# Altium schematic symbol library SCH - MCU - SI LABS - SI LABS BGM13P22F512GE 31-PIN LGA 13X15.SchLib: 1 symbol
Pins are listed as number, name and electrical type; pins without a type are passive.

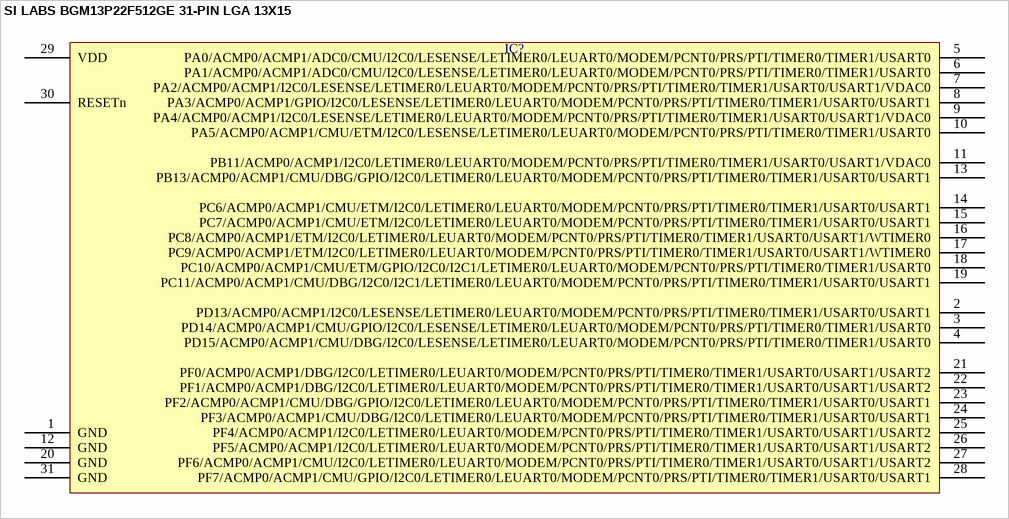
[diagram p0: symbol SI LABS BGM13P22F512GE 31-PIN LGA 13X15]

## SI LABS BGM13P22F512GE 31-PIN LGA 13X15
designator IC?  (value not drawn)
pins: 1 GND, 2 PD13/ACMP0/ACMP1/I2C0/LESENSE/LETIMER0/LEUART0/MODEM/PCNT0/PRS/PTI/TIMER0/TIMER1/USART0/USART1, 3 PD14/ACMP0/ACMP1/CMU/GPIO/I2C0/LESENSE/LETIMER0/LEUART0/MODEM/PCNT0/PRS/PTI/TIMER0/TIMER1/USART0, 4 PD15/ACMP0/ACMP1/CMU/DBG/I2C0/LESENSE/LETIMER0/LEUART0/MODEM/PCNT0/PRS/PTI/TIMER0/TIMER1/USART0, 5 PA0/ACMP0/ACMP1/ADC0/CMU/I2C0/LESENSE/LETIMER0/LEUART0/MODEM/PCNT0/PRS/PTI/TIMER0/TIMER1/USART0, 6 PA1/ACMP0/ACMP1/ADC0/CMU/I2C0/LESENSE/LETIMER0/LEUART0/MODEM/PCNT0/PRS/PTI/TIMER0/TIMER1/USART0, 7 PA2/ACMP0/ACMP1/I2C0/LESENSE/LETIMER0/LEUART0/MODEM/PCNT0/PRS/PTI/TIMER0/TIMER1/USART0/USART1/VDAC0, 8 PA3/ACMP0/ACMP1/GPIO/I2C0/LESENSE/LETIMER0/LEUART0/MODEM/PCNT0/PRS/PTI/TIMER0/TIMER1/USART0/USART1, 9 PA4/ACMP0/ACMP1/I2C0/LESENSE/LETIMER0/LEUART0/MODEM/PCNT0/PRS/PTI/TIMER0/TIMER1/USART0/USART1/VDAC0, 10 PA5/ACMP0/ACMP1/CMU/ETM/I2C0/LESENSE/LETIMER0/LEUART0/MODEM/PCNT0/PRS/PTI/TIMER0/TIMER1/USART0, 11 PB11/ACMP0/ACMP1/I2C0/LETIMER0/LEUART0/MODEM/PCNT0/PRS/PTI/TIMER0/TIMER1/USART0/USART1/VDAC0, 12 GND, 13 PB13/ACMP0/ACMP1/CMU/DBG/GPIO/I2C0/LETIMER0/LEUART0/MODEM/PCNT0/PRS/PTI/TIMER0/TIMER1/USART0/USART1, 14 PC6/ACMP0/ACMP1/CMU/ETM/I2C0/LETIMER0/LEUART0/MODEM/PCNT0/PRS/PTI/TIMER0/TIMER1/USART0/USART1, 15 PC7/ACMP0/ACMP1/CMU/ETM/I2C0/LETIMER0/LEUART0/MODEM/PCNT0/PRS/PTI/TIMER0/TIMER1/USART0/USART1, 16 PC8/ACMP0/ACMP1/ETM/I2C0/LETIMER0/LEUART0/MODEM/PCNT0/PRS/PTI/TIMER0/TIMER1/USART0/USART1/WTIMER0, 17 PC9/ACMP0/ACMP1/ETM/I2C0/LETIMER0/LEUART0/MODEM/PCNT0/PRS/PTI/TIMER0/TIMER1/USART0/USART1/WTIMER0, 18 PC10/ACMP0/ACMP1/CMU/ETM/GPIO/I2C0/I2C1/LETIMER0/LEUART0/MODEM/PCNT0/PRS/PTI/TIMER0/TIMER1/USART0, 19 PC11/ACMP0/ACMP1/CMU/DBG/I2C0/I2C1/LETIMER0/LEUART0/MODEM/PCNT0/PRS/PTI/TIMER0/TIMER1/USART0/USART1, 20 GND, 21 PF0/ACMP0/ACMP1/DBG/I2C0/LETIMER0/LEUART0/MODEM/PCNT0/PRS/PTI/TIMER0/TIMER1/USART0/USART1/USART2, 22 PF1/ACMP0/ACMP1/DBG/I2C0/LETIMER0/LEUART0/MODEM/PCNT0/PRS/PTI/TIMER0/TIMER1/USART0/USART1/USART2, 23 PF2/ACMP0/ACMP1/CMU/DBG/GPIO/I2C0/LETIMER0/LEUART0/MODEM/PCNT0/PRS/PTI/TIMER0/TIMER1/USART0/USART1, 24 PF3/ACMP0/ACMP1/CMU/DBG/I2C0/LETIMER0/LEUART0/MODEM/PCNT0/PRS/PTI/TIMER0/TIMER1/USART0/USART1, 25 PF4/ACMP0/ACMP1/I2C0/LETIMER0/LEUART0/MODEM/PCNT0/PRS/PTI/TIMER0/TIMER1/USART0/USART1/USART2, 26 PF5/ACMP0/ACMP1/I2C0/LETIMER0/LEUART0/MODEM/PCNT0/PRS/PTI/TIMER0/TIMER1/USART0/USART1/USART2, 27 PF6/ACMP0/ACMP1/CMU/I2C0/LETIMER0/LEUART0/MODEM/PCNT0/PRS/PTI/TIMER0/TIMER1/USART0/USART1/USART2, 28 PF7/ACMP0/ACMP1/CMU/GPIO/I2C0/LETIMER0/LEUART0/MODEM/PCNT0/PRS/PTI/TIMER0/TIMER1/USART0/USART1, 29 VDD, 30 RESETn, 31 GND